# Altium footprint library MergenElektronik_Resistors_Potentiometers_TrimmerResistors.PcbLib: 1 footprints
Each footprint in its own frame and in the unit in brackets; x right, y up, seen from the top. Pads: shape width x height; smd on the part's side, far side on the other; paste and mask are expansions set on the pad; w line width, h text height; cw(c..) or ccw(c..) is an arc to the next point about the centre after c.
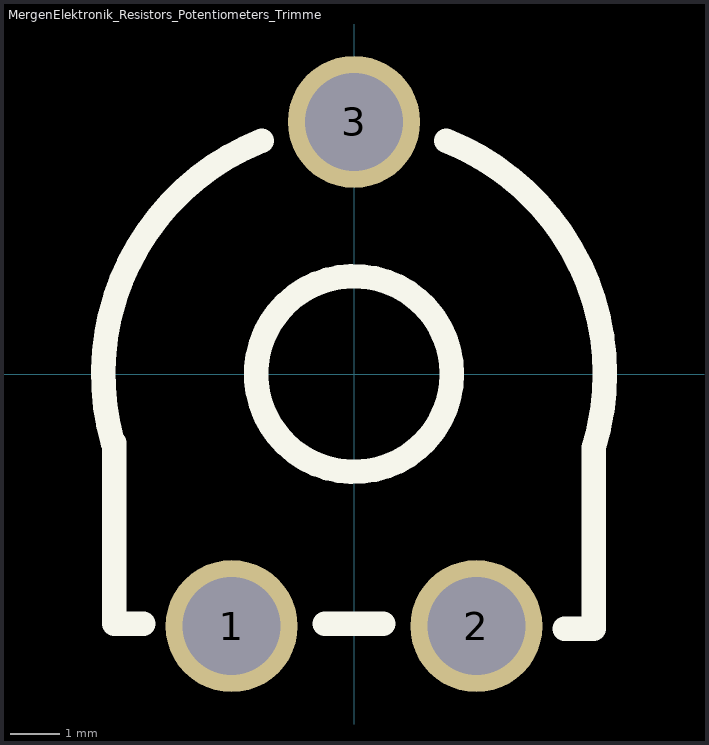
[diagram p0: the footprint, top view; thin cyan lines are the x and y axes]

## MergenElektronik_Resistors_Potentiometers_TrimmerResistors_PT-10-10.3 [mm] "PT-10 10.3MM"
pads (3):
  round 2.7 hole 2: 1(-2.5,-5.15) 2(2.5,-5.15) 3(0,5.15)
Top Overlay:
  circle w0.5: c0,0 r2
  lines w0.5: -4.927,-1.408 cw(c0,0) -1.886,4.765 ; -4.9,-1.4 -4.9,-5.1 -4.3,-5.1 ; -0.6,-5.1 0.6,-5.1 ; 1.886,4.765 cw(c0,0) 4.9,-1.5 4.9,-5.2 4.3,-5.2
3D body: height 5.42, standoff -4.3, extent -5.15,-5.474 5.15,5.154